# EAGLE library part LP3943 (library kwoo)
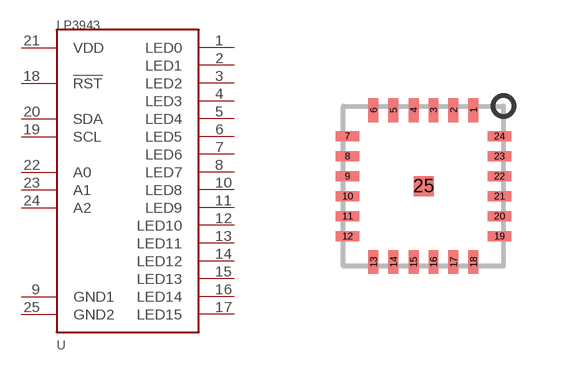
[diagram p43: symbol with the pads of 24-LLP; footprint 24-LLP]

Designator prefix U

## LP3943  [24-LLP]
1  LED0
2  LED1
3  LED2
4  LED3
5  LED4
6  LED5
7  LED6
8  LED7
9  GND1
10  LED8
11  LED9
12  LED10
13  LED11
14  LED12
15  LED13
16  LED14
17  LED15
18  !RST
19  SCL
20  SDA
21  VDD
22  A0
23  A1
24  A2
25  GND2

## Footprint 24-LLP (pad centres in mm)
smd 0.25 x 0.6: 1 1.25,1.9; 2 0.75,1.9; 3 0.25,1.9; 4 -0.25,1.9; 5 -0.75,1.9; 6 -1.25,1.9; 13 -1.25,-1.9; 14 -0.75,-1.9; 15 -0.25,-1.9; 16 0.25,-1.9; 17 0.75,-1.9; 18 1.25,-1.9
smd 0.6 x 0.25: 7 -1.9,1.25; 8 -1.9,0.75; 9 -1.9,0.25; 10 -1.9,-0.25; 11 -1.9,-0.75; 12 -1.9,-1.25; 19 1.9,-1.25; 20 1.9,-0.75; 21 1.9,-0.25; 22 1.9,0.25; 23 1.9,0.75; 24 1.9,1.25
smd 0.5 x 0.5: 25 0,0